# EAGLE library part POLOLU_MC33926_DUAL_MOTOR_DRIVER (library arcs_library)
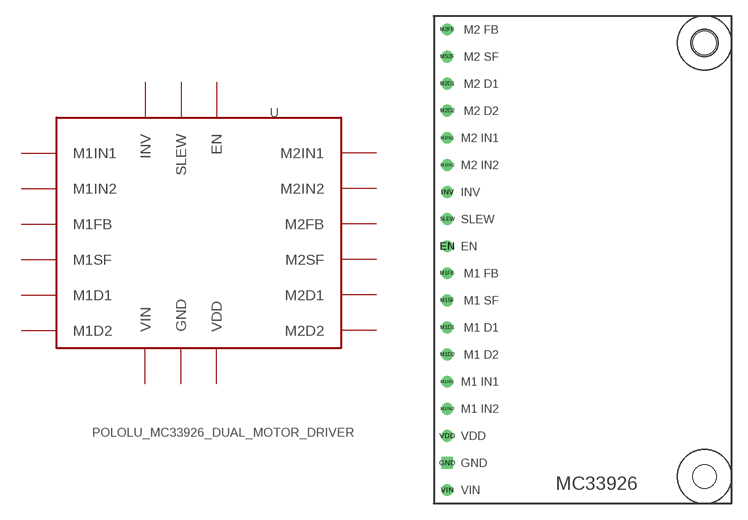
[diagram p8: symbol with the pads of POLOLU_MC33926_DUAL_MOTOR_DRIVER; footprint POLOLU_MC33926_DUAL_MOTOR_DRIVER]

Designator prefix -

## POLOLU_MC33926_DUAL_MOTOR_DRIVER  [POLOLU_MC33926_DUAL_MOTOR_DRIVER]
EN  EN
GND  GND
INV  INV
M1D1  M1D1
M1D2  M1D2
M1FB  M1FB
M1IN1  M1IN1
M1IN2  M1IN2
M1SF  M1SF
M2D1  M2D1
M2D2  M2D2
M2FB  M2FB
M2IN1  M2IN1
M2IN2  M2IN2
MS2F  M2SF
SLEW  SLEW
VDD  VDD
VIN  VIN

## Footprint POLOLU_MC33926_DUAL_MOTOR_DRIVER (pad centres in mm)
drill 0.6 pad 1.02: EN 1.27,24.13; INV 1.27,29.21; M1D1 1.27,16.51; M1D2 1.27,13.97; M1FB 1.27,21.59; M1IN1 1.27,11.43; M1IN2 1.27,8.89; M1SF 1.27,19.05; M2D1 1.27,39.37; M2D2 1.27,36.83; M2FB 1.27,44.45; M2IN1 1.27,34.29; M2IN2 1.27,31.75; MS2F 1.27,41.91; SLEW 1.27,26.67; VDD 1.27,6.35; VIN 1.27,1.27
drill 0.6 pad 1.02 square: GND 1.27,3.81
hole 2.184 at 25.4,2.54
hole 2.184 at 25.4,43.18